# Altium schematic symbol library Class-D amplifiers.SchLib: 3 symbols
Pins are listed as number, name and electrical type; pins without a type are passive.

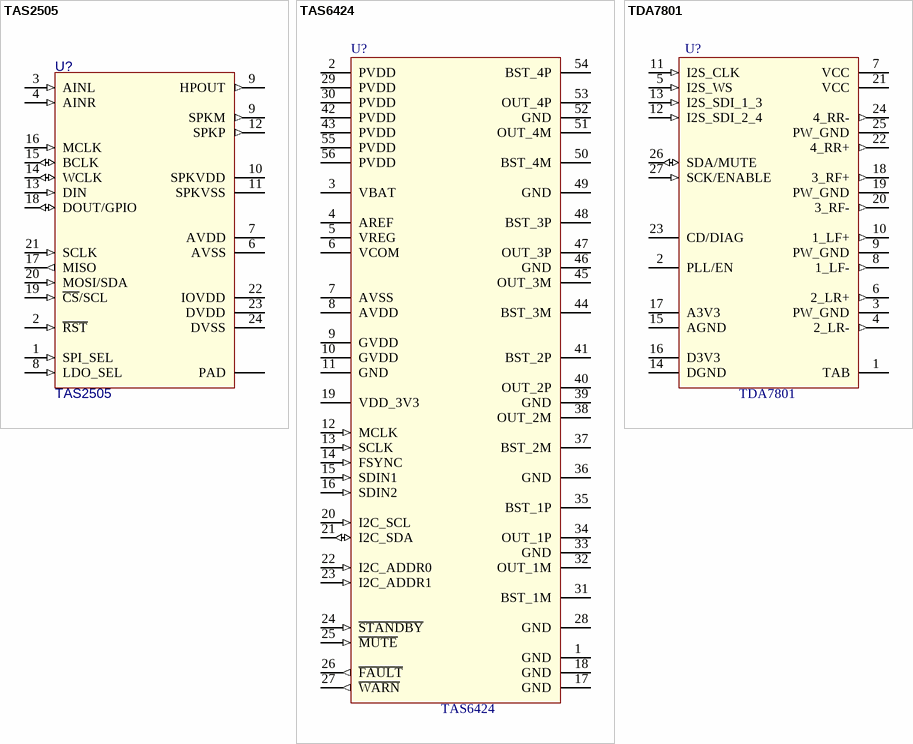
[diagram p0: symbols TAS2505 to TDA7801]

## TAS2505
designator U?
Stereo Audio CODEC; Value: TAS2505
footprint QFN-24-4x4 (24-Pin Plastic Quad Flat No-Lead 0.5 mm Pitch, IPC Low Density)
pins: 1 SPI_SEL (in), 2 ~{RST} (in), 3 AINL (in), 4 AINR (in), 6 AVSS (power), 7 AVDD (power), 8 LDO_SEL (in), 9 SPKM (out), 9 HPOUT (out), 10 SPKVDD (power), 11 SPKVSS (power), 12 SPKP (out), 13 DIN (in), 14 WCLK (io), 15 BCLK (io), 16 MCLK (in), 17 MISO (out), 18 DOUT/GPIO (io), 19 ~{CS}/SCL (in), 20 MOSI/SDA (in), 21 SCLK (in), 22 IOVDD (power), 23 DVDD (power), 24 DVSS (power), 25 PAD

## TAS6424
designator U?
75-W, 2-MHz Digital Input 4-Channel Automotive Class-D Audio Amplifier  With Load-Dump Protection and I  2C Diagnostics; value: TAS6424
footprint SSOP-56 (SSOP, 56-Leads, Body 18,41x7,49mm, Pitch 0,64mm, IPC Medium Density)
pins: 1 GND (power), 2 PVDD (power), 3 VBAT (power), 4 AREF (power), 5 VREG (power), 6 VCOM (power), 7 AVSS (power), 8 AVDD (power), 9 GVDD (power) "Gate drive voltage regulator for channel 3 and 4, derived from VBAT input pin", 10 GVDD (power) "Gate drive voltage regulator for channel 1 and 2, derived from VBAT input pin", 11 GND (power), 12 MCLK (in), 13 SCLK (in), 14 FSYNC (in), 15 SDIN1 (in), 16 SDIN2 (in), 17 GND (power), 18 GND (power), 19 VDD_3V3 (power), 20 I2C_SCL (in), 21 I2C_SDA (io), 22 I2C_ADDR0 (in), 23 I2C_ADDR1 (in), 24 ~{STANDBY} (in), 25 ~{MUTE} (in), 26 ~{FAULT} (out), 27 ~{WARN} (out), 28 GND (power), 29 PVDD (power), 30 PVDD (power), 31 BST_1M (power), 32 OUT_1M, 33 GND (power), 34 OUT_1P, 35 BST_1P (power), 36 GND (power), 37 BST_2M (power), 38 OUT_2M, 39 GND (power), 40 OUT_2P, 41 BST_2P (power), 42 PVDD (power), 43 PVDD (power), 44 BST_3M (power), 45 OUT_3M, 46 GND (power), 47 OUT_3P, 48 BST_3P (power), 49 GND (power), 50 BST_4M (power), 51 OUT_4M, 52 GND (power), 53 OUT_4P, 54 BST_4P (power), 55 PVDD (power), 56 PVDD (power)

## TDA7801
designator U?
TDA7801 (Flexiwatt27); Value: TDA7801
pins: 1 TAB (power) "TAB connection (GND)", 2 PLL/EN "Pll loop filter / ENABLE", 3 PW_GND (power) "Power ground channel 2", 4 2_LR- (out) "Channel 2 (Left Rear) negative output", 5 I2S_WS (in) "Word select (I2S bus, logic input)", 6 2_LR+ (out) "Channel 2 (Left Rear) positive output", 7 VCC (power) "Channel 1 and 2 positive supply", 8 1_LF- (out) "Channel 1 (Left Front) negative output", 9 PW_GND "Power ground channel 1", 10 1_LF+ (out) "Channel 1 (Left Front) positive output", 11 I2S_CLK (in) "Serial clock (I2S bus, logic input)", 12 I2S_SDI_2_4 (in) "Serial data channels 2 and 4 (I2S bus, logic input)", 13 I2S_SDI_1_3 (in) "Serial data channels 1 and 3 (I2S bus, logic input)", 14 DGND (power) "Digital ground", 15 AGND (power) "Analog ground", 16 D3V3 (power) "Digital 3.3 V supply filter", 17 A3V3 (power) "Analog 3.3 V supply filter", 18 3_RF+ (out) "Channel 3 (right front) positive output", 19 PW_GND (power) "Power ground channel 3", 20 3_RF- (out) "Channel 3 (right front) negative output", 21 VCC (power) "Channels 3 and 4 positive supply", 22 4_RR+ (out) "Channel 4 (right rear) positive output", 23 CD/DIAG (oc) "Clip detector and diagnostic output", 24 4_RR- (out) "Channel 4 (right rear) negative output", 25 PW_GND "Power ground channel 4", 26 SDA/MUTE (io) "I2C data/legacy mode mute", 27 SCK/ENABLE (in) "I2C clock/enable legacy mode"